# EAGLE library part SERIALFLASH (library everykey)
SPI flash chip. Uses common pinout (Winbond, Macronix, Microchip, Numonyx, ...) - check for different pinouts (e.g. Atmel)
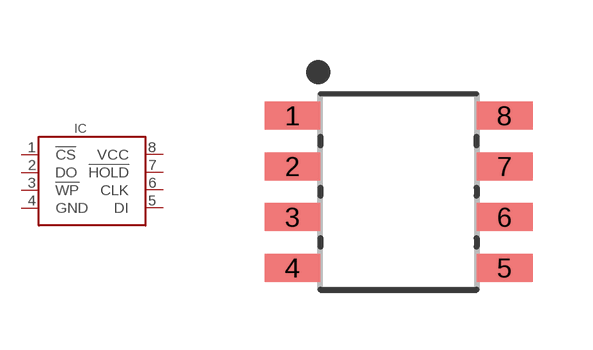
[diagram p9: symbol with the pads of SOIC8-150MIL; footprint SOIC8-150MIL]

Designator prefix IC

## SERIALFLASHSOIC8-150MIL  [SOIC8-150MIL]
1  !CS  in
2  DO  out
3  !WP  in
4  GND  pwr
5  DI  in
6  CLK  in
7  !HOLD  in
8  VCC  pwr

## Footprint SOIC8-150MIL (pad centres in mm)
SOIC-8 package for 150mil (3.8-4mm) wide body.
smd 1.4 x 0.7: 1 -2.65,1.905; 2 -2.65,0.635; 3 -2.65,-0.635; 4 -2.65,-1.905; 5 2.65,-1.905; 6 2.65,-0.635; 7 2.65,0.635; 8 2.65,1.905